# EAGLE library part 17791063215 (library 17791063215)
Switching Voltage Regulators VISM 2kVReg 8-42VInp 1W SIP-8 3.3-6V Outp Source: Datasheet <https://www.mouser.de/datasheet/2/445/17791063215-1715724.pdf>
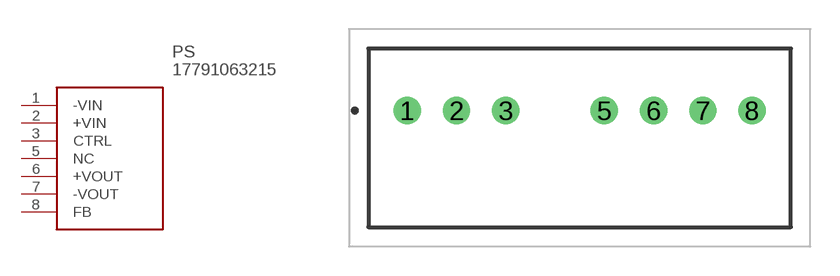
[diagram p0: symbol with the pads of 17791063215; footprint 17791063215]

Designator prefix PS

## 17791063215 (Description: Switching Voltage Regulators VISM 2kVReg 8-42VInp 1W SIP-8 3.3-6V Outp; Height: 11.6mm; Manufacturer_Name: Wurth Elektronik; Manufacturer_Part_Number: 17791063215; Mouser_Part_Number: 710-17791063215; Mouser_Price-Stock: https://www.mouser.co.uk/ProductDetail/Wurth-Elektronik/17791063215?qs=vLWxofP3U2xkPONd0ILDhA%3D%3D)  [17791063215]
1  -VIN
2  +VIN
3  CTRL
5  NC  nc
6  +VOUT
7  -VOUT
8  FB

## Footprint 17791063215 (pad centres in mm)
17791063215-2
drill 0.9 pad 1.4: 1 0,0; 2 2.54,0; 3 5.08,0; 5 10.16,0; 6 12.7,0; 7 15.24,0; 8 17.78,0